# Altium footprint library PcbLib1.PcbLib: 11 footprints
Each footprint in its own frame and in the unit in brackets; x right, y up, seen from the top. Pads: shape width x height; smd on the part's side, far side on the other; paste and mask are expansions set on the pad; w line width, h text height; cw(c..) or ccw(c..) is an arc to the next point about the centre after c.
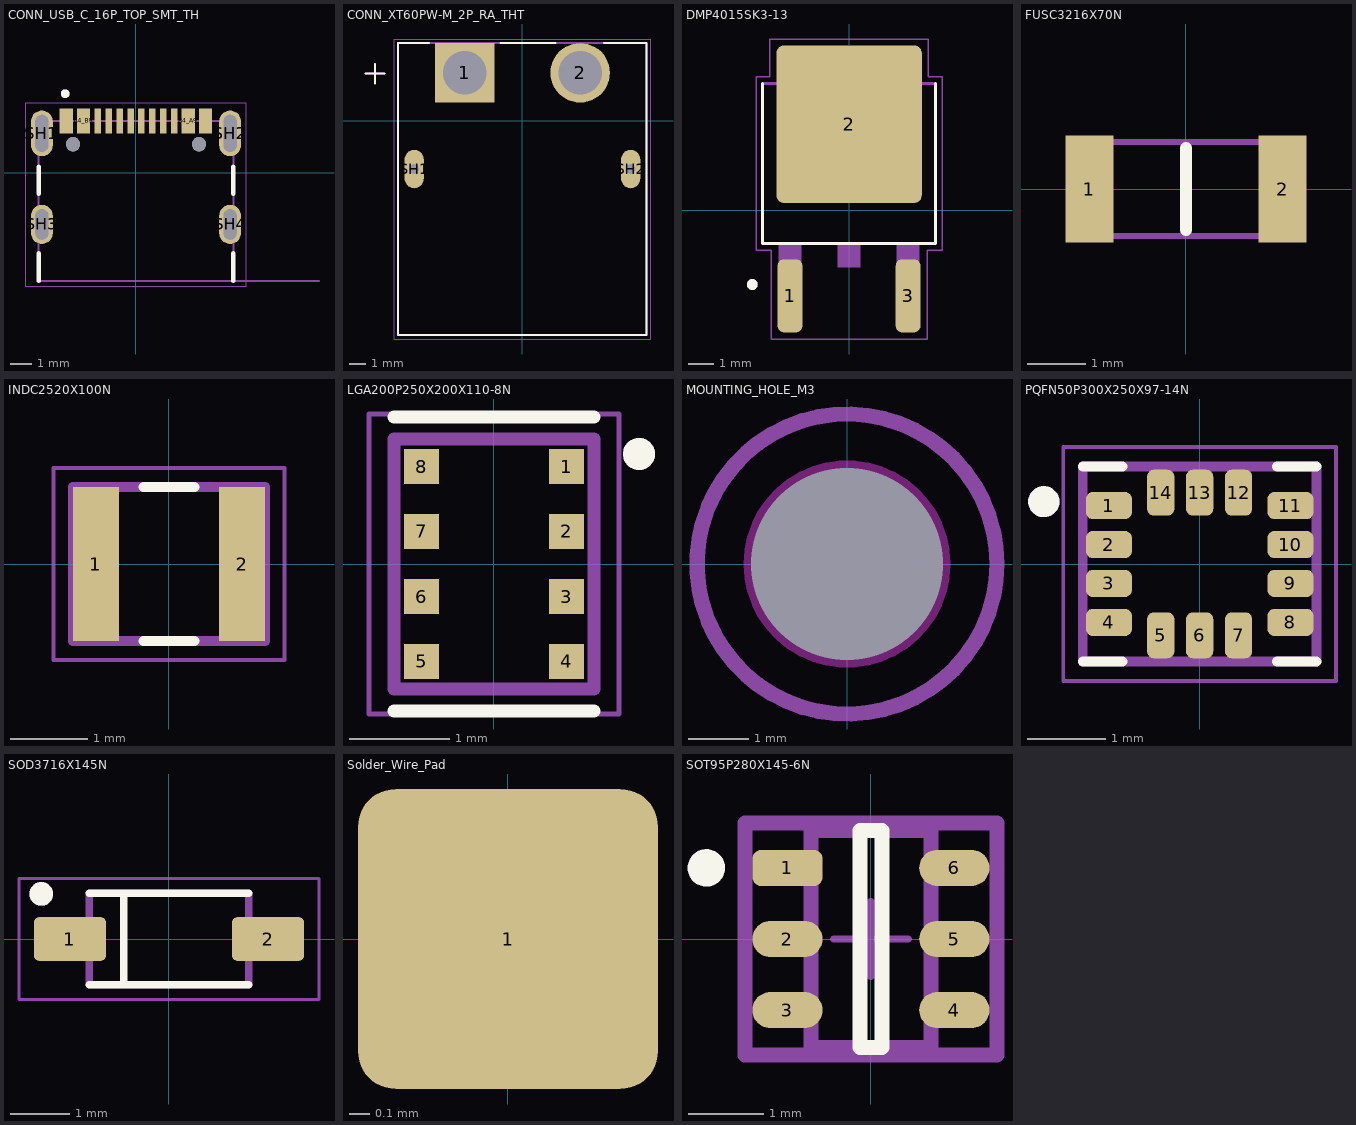
[diagram p0: the footprints below, top view; thin cyan lines are the x and y axes]

## CONN_USB_C_16P_TOP_SMT_TH [mm] "USB Type-C Receptacle, Top Mount, SMT+TH, 16 Contacts"
pads (18):
  rect 0.6x1.15 smd mask+0.05: A1_B12(-3.2,2.378) A4_B9(-2.4,2.378) B1_A12(3.2,2.378) B4_A9(2.4,2.378)
  rect 0.3x1.15 smd mask+0.05: A5(-1.25,2.378) A6(-0.25,2.378) A7(0.25,2.378) A8(1.25,2.378) B5(1.75,2.378) B6(0.75,2.378) B7(-0.75,2.378) B8(-1.75,2.378)
  oval 1x2.1 hole 0.6 slot 1.7 at 90 deg: SH1(-4.32,1.803) SH2(4.32,1.803)
  oval 1x1.8 hole 0.6 slot 1.4 at 90 deg: SH3(-4.32,-2.377) SH4(4.32,-2.377)
  round 0.65 hole 0.65 unplated: ""(-2.89,1.303) ""(2.89,1.303)
Top Overlay:
  circle w0.2: c-3.25,3.623 r0.1
  lines w0.2: -4.47,-4.977 -4.47,-3.697 ; -4.47,-0.977 -4.47,0.273 ; 4.47,-4.977 4.47,-3.697 ; 4.47,-0.977 4.47,0.273
Mechanical 13:
  circle w0.2: c-3.25,3.623 r0.1
  lines w0.1: 8.4,-4.977 4.47,-4.977 ; 4.47,-4.977 -4.47,-4.977 -4.47,2.373 4.47,2.373 4.47,-4.977
  text "PCB EDGE" at 5.4,-4.877 h0.41
Mechanical 15:
  lines w0.05: -5.07,-5.227 5.07,-5.227 5.07,3.203 -5.07,3.203 -5.07,-5.227
3D body "USB4105-GF-A--3DModel-STEP-510211 (1).STEP": height 3.41, standoff -1, extent -4.47,-4.978 4.47,2.733

## CONN_XT60PW-M_2P_RA_THT [mm] "Connector, Power, 2 Position, Right Angle, Through Hole, 7.2 mm Pitch"
pads (4):
  rect 3.716x3.716 / inner round 3.716 / far side rect 3.716x3.716 hole 2.7 mask+0.102: 1(-3.6,3)
  round 3.716 hole 2.7 mask+0.102: 2(3.6,3)
  oval 1.2x2.4 hole 0.6 square mask+0.102: SH1(-6.75,-3) SH2(6.75,-3)
Top Overlay:
  lines w0.127: -9.8,2.95 -8.6,2.95 ; -9.2,2.35 -9.2,3.55 ; -5.828,4.85 -7.75,4.85 -7.75,-13.35 7.75,-13.35 7.75,4.85 5.078,4.85 ; -1.372,4.85 2.072,4.85
Mechanical 13:
  lines w0.127: -9.8,2.95 -8.6,2.95 ; -9.2,2.35 -9.2,3.55 ; -7.75,-13.35 7.75,-13.35 7.75,4.85 -7.75,4.85 -7.75,-13.35
Mechanical 15:
  lines w0.05: -8,-13.6 8,-13.6 8,5.11 -8,5.11 -8,-13.6
3D body "step_temp.STEP": height 8.4, standoff -2.55, extent -7.75,-13.35 7.75,4.85

## DMP4015SK3-13 [mm]
pads (3):
  rrect50% 0.96x2.83 smd: 1(-2.286,-3.325) 3(2.286,-3.325)
  rrect10% 5.63x6.1 smd paste-4: 2(0,3.325)
Top Overlay:
  circle w0.2: c-3.75,-2.885 r0.112
  lines w0.127: -3.35,4.9 -3.35,-1.3 3.35,-1.3 3.35,4.9
Top Paste:
  region: 0.655,2.595 -0.655,2.595 -0.655,4.055 0.655,4.055
  region: 0.655,4.625 -0.655,4.625 -0.655,6.085 0.655,6.085
  region: 0.655,0.565 -0.655,0.565 -0.655,2.025 0.655,2.025
  region: -1.225,4.625 -2.535,4.625 -2.535,6.085 -1.225,6.085
  region: -1.225,2.595 -2.535,2.595 -2.535,4.055 -1.225,4.055
  region: 2.535,2.595 1.225,2.595 1.225,4.055 2.535,4.055
  region: 2.535,4.625 1.225,4.625 1.225,6.085 2.535,6.085
  region: -1.225,0.565 -2.535,0.565 -2.535,2.025 -1.225,2.025
  region: 2.535,0.565 1.225,0.565 1.225,2.025 2.535,2.025
Mechanical 13:
  circle w0.2: c-3.75,-2.885 r0.112
  region: -1.854,-4.341 -2.718,-4.341 -2.718,-1.3 -1.854,-1.3
  region: 2.718,-4.341 1.854,-4.341 1.854,-1.3 2.718,-1.3
  region: 0.432,-2.208 -0.432,-2.208 -0.432,-1.3 0.432,-1.3
  region: 2.565,5.463 2.565,4.9 -2.565,4.9 -2.565,5.463 -2.108,6.015 2.108,6.015
  lines w0.127: -2.565,4.9 -3.35,4.9 -3.35,-1.3 3.35,-1.3 3.35,4.9 2.565,4.9
  lines w0.203: -2.565,4.9 -2.565,5.463 -2.108,5.92 2.108,5.92 2.565,5.463 2.565,4.9 -2.565,4.9
Mechanical 15:
  lines w0.05: -3.6,-1.555 -3.02,-1.555 -3.02,-4.995 3.02,-4.995 3.02,-1.555 3.6,-1.555 3.6,5.155 3.07,5.155 3.07,6.625 -3.07,6.625 -3.07,5.155 -3.6,5.155 -3.6,-1.555
3D body "step_temp.STEP": height 2.39, standoff 0, extent -3.29,-4.011 3.29,5.899

## FUSC3216X70N [mm] "Polyfuse"
pads (2):
  rect 0.82x1.82 smd: 1(-1.65,0) 2(1.65,0)
Top Overlay:
  lines w0.2: 0,-0.7 0,0.7
Mechanical 15:
  lines w0.1: -1.6,-0.8 1.6,-0.8 1.6,0.8 -1.6,0.8 -1.6,-0.8
3D body "MF-NSMF075-2.stp": height 0.7, standoff 0, extent -1.6,-0.8 1.6,0.8

## INDC2520X100N [mm] "4.7uH ±20% Shielded Power Inductor, 1.09A, 2520 (1008 Metric)"
pads (2):
  rect 0.6x2 smd: 1(-0.95,0) 2(0.95,0)
Top Overlay:
  lines w0.127: -0.33,-1 0.33,-1 ; -0.33,1 0.33,1
Mechanical 13:
  lines w0.127: -1.25,-1 1.25,-1 1.25,1 -1.25,1 -1.25,-1
Mechanical 15:
  lines w0.05: -1.5,-1.25 1.5,-1.25 1.5,1.25 -1.5,1.25 -1.5,-1.25
3D body "step_temp.STEP": height 1, standoff 0, extent -1.25,-1 1.25,1

## LGA200P250X200X110-8N [mm] "Digital Barometric Pressure Sensor, I2C/SPI, PG-VLGA-8-2"
pads (8):
  rect 0.35x0.35 smd paste-1: 1(0.725,0.975) 2(0.725,0.325) 3(0.725,-0.325) 4(0.725,-0.975) 5(-0.725,-0.975) 6(-0.725,-0.325) 7(-0.725,0.325) 8(-0.725,0.975)
Top Overlay:
  circle w0.16: c1.45,1.1 r0.08
  lines w0.127: -1,-1.47 1,-1.47 ; -1,1.47 1,1.47
Top Paste:
  circle w0.175: c-0.725,-0.975 r0.088
  circle w0.175: c-0.725,-0.325 r0.088
  circle w0.175: c-0.725,0.975 r0.088
  circle w0.175: c-0.725,0.325 r0.088
  circle w0.175: c0.725,-0.975 r0.088
  circle w0.175: c0.725,-0.325 r0.088
  circle w0.175: c0.725,0.975 r0.088
  circle w0.175: c0.725,0.325 r0.088
Mechanical 13:
  circle w0.16: c1.45,1.1 r0.08
  lines w0.127: -1,-1.25 -1,1.25 1,1.25 1,-1.25 -1,-1.25
Mechanical 15:
  lines w0.05: -1.25,-1.5 -1.25,1.5 1.25,1.5 1.25,-1.5 -1.25,-1.5
3D body "step_temp.STEP": height 1, standoff 0, extent -1.25,-1 1.25,1

## MOUNTING_HOLE_M3 [mm] "Non-Plated Through Mounting Hole (NPTH) for M3 mechanical fasteners."
pads (1):
  round 0 hole 3.2 unplated: 1(0,0)
Keep-Out Layer:
  circle w0.254: c0,0 r1.6
Top Assembly:
  circle w0.254: c0,0 r2.5
Bottom Assembly:
  circle w0.254: c0,0 r2.5

## PQFN50P300X250X97-14N [mm] "IMU"
pads (14):
  rrect50% 0.59x0.35 smd mask+0: 1(-1.165,0.75) 2(-1.165,0.25) 3(-1.165,-0.25) 4(-1.165,-0.75) 8(1.165,-0.75) 9(1.165,-0.25) 10(1.165,0.25) 11(1.165,0.75)
  rrect50% 0.35x0.59 smd mask+0: 5(-0.5,-0.915) 6(0,-0.915) 7(0.5,-0.915) 12(0.5,0.915) 13(0,0.915) 14(-0.5,0.915)
Top Overlay:
  circle w0.2: c-2,0.8 r0.1
  lines w0.127: -1.5,-1.25 -0.99,-1.25 ; -1.5,1.25 -0.99,1.25 ; 0.99,-1.25 1.5,-1.25 ; 0.99,1.25 1.5,1.25
Top Solder:
  drawing of 14 lines, arcs and shapes, not listed
Mechanical 13:
  circle w0.2: c-2,0.8 r0.1
  lines w0.127: -1.5,-1.25 1.5,-1.25 1.5,1.25 -1.5,1.25 -1.5,-1.25
Mechanical 15:
  lines w0.05: -1.75,-1.5 1.75,-1.5 1.75,1.5 -1.75,1.5 -1.75,-1.5
3D body "ICM-42688-P--3DModel-STEP-1.STEP": height 0.98, standoff 0.01, extent -1.5,-1.25 1.5,1.25

## SOD3716X145N [mm] "Zener diode"
pads (2):
  rrect25% 1.22x0.74 smd paste+0 mask+0.102: 1(-1.675,0) 2(1.675,0)
Top Overlay:
  circle w0.2: c-2.159,0.762 r0.1
  lines w0.127: -1.35,-0.775 1.35,-0.775 ; -1.35,0.775 1.35,0.775 ; -0.762,-0.762 -0.762,0.762
Mechanical 13:
  circle w0.2: c-2.159,0.762 r0.1
  lines w0.127: -1.35,-0.775 1.35,-0.775 1.35,0.775 -1.35,0.775 -1.35,-0.775
Mechanical 15:
  lines w0.05: -2.535,-1.025 2.535,-1.025 2.535,1.025 -2.535,1.025 -2.535,-1.025
3D body "BZT52C10-7-F.STEP": height 1.46, standoff -0.24, extent -1.873,-0.775 1.87,0.775

## Solder_Wire_Pad [mm] "1.5 mm × 1.5 mm multipurpose PCB solder pad for user-accessible connections. Intended for power, ground, signal routing, sensor expansion, debugging, and direct wire attachment in open-source hardware designs."
pads (1):
  rrect25% 1.5x1.5 smd paste+0 mask+0.102: 1(0,0)

## SOT95P280X145-6N [mm] "DC/DC Buck Converter, 3A, 3.8-32V IN, TSOT-26-6"
pads (6):
  rrect50% 0.94x0.486 smd paste+0: 1(-1.115,0.95)
  rrect100% 0.94x0.486 smd paste+0: 2(-1.115,0) 3(-1.115,-0.95) 4(1.116,-0.95) 5(1.116,0) 6(1.116,0.95)
Top Overlay:
  circle w0.25: c-2.2,0.95 r0.125
  lines w0.2: -0.146,-1.45 -0.146,1.45 0.146,1.45 0.146,-1.45 -0.146,-1.45
Top Assembly:
  lines w0.2: -1.685,-1.55 -1.685,1.55 ; -1.685,-1.55 1.685,-1.55 ; -1.685,-1.55 -1.685,1.55 ; -1.685,-1.55 1.685,-1.55 ; -1.685,1.55 1.685,1.55 ; -1.685,1.55 1.685,1.55 ; 1.685,-1.55 1.685,1.55 ; 1.685,-1.55 1.685,1.55
  text ".Designator" at 0,0.187 h1
Top 3D Body:
  lines w0.2: -0.8,-1.45 -0.8,1.45 0.8,1.45 0.8,-1.45 -0.8,-1.45
Top Component Center:
  lines w0.1: -0.5,0 0.5,0 ; 0,-0.5 0,0.5
3D body "IC_Diodes_Inc_AP63205WU-7_eec.STEP": height 0.25, standoff 0, extent -1.685,-1.55 1.685,1.55